# EAGLE library part CON-8X1 (library eagleLib v2)
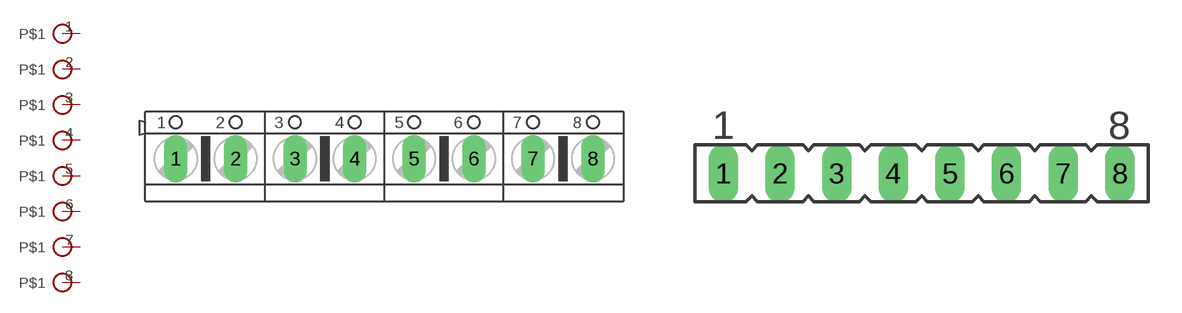
[diagram p4: symbol with the pads of AK500/8; footprints AK500/8, FE08]

Designator prefix -; gates G$1=PIN G$2=PIN G$3=PIN G$4=PIN G$5=PIN G$6=PIN G$7=PIN G$8=PIN

## CON-8X1P  [AK500/8]
1  G$1:P$1
2  G$2:P$1
3  G$3:P$1
4  G$4:P$1
5  G$5:P$1
6  G$6:P$1
7  G$7:P$1
8  G$8:P$1

## CON-8X1Q  [FE08]
Pads as for AK500/8

## CON-8X1M  [KK-156-8]
Pads as for AK500/8

## CON-8X1R  [MA08-1]
Pads as for AK500/8

## Footprint AK500/8 (pad centres in mm)
CONNECTOR
drill 1.321 long: 1 -17.526,0; 2 -12.497,0; 3 -7.518,0; 4 -2.489,0; 5 2.489,0; 6 7.518,0; 7 12.497,0; 8 17.526,0

## Footprint FE08 (pad centres in mm)
FEMALE HEADER
drill 0.813 long: 1 -8.89,0; 2 -6.35,0; 3 -3.81,0; 4 -1.27,0; 5 1.27,0; 6 3.81,0; 7 6.35,0; 8 8.89,0

## Footprint KK-156-8 (pad centres in mm)
KK 156 HEADER Source: http://www.molex.com/pdm_docs/sd/026604100_sd.pdf
drill 1.7 pad 2.184 long: 1 -13.86,0; 2 -9.9,0; 3 -5.94,0; 4 -1.98,0; 5 1.98,0; 6 5.94,0; 7 9.9,0; 8 13.86,0

## Footprint MA08-1 (pad centres in mm)
PIN HEADER
drill 1.016 long: 1 -8.89,0; 2 -6.35,0; 3 -3.81,0; 4 -1.27,0; 5 1.27,0; 6 3.81,0; 7 6.35,0; 8 8.89,0